# Altium schematic symbol library LM2937ESX.SchLib: 1 symbol
Pins are listed as number, name and electrical type; pins without a type are passive.

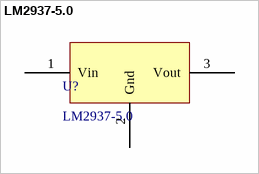
[diagram p0: symbol LM2937-5.0]

## LM2937-5.0
designator U?
5V voltage regulator
footprint TO254P1258X464-4N (TO, 4-Pads, Body 8.9x10.4mm (max), IPC Medium Density)
pins: 1 Vin, 2 Gnd, 3 Vout